# Altium schematic symbol library Cap_FYL0H103ZF.SchLib: 1 symbol
Pins are listed as number, name and electrical type; pins without a type are passive.

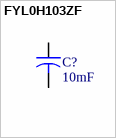
[diagram p0: symbol FYL0H103ZF]

## FYL0H103ZF
designator C?, comment 10mF
Capacitor; PartNumber: EEU-FC1J470; Manufacturer: Panasonic; Published: 23-Sep-2002; PackageReference: CAPR5-4X5; Publisher: Altium Limited; PackageDescription: Capacitor; 2 Leads
simulation model CAP (Capacitor)
signal-integrity model Cap
footprint FYL0H103ZF
pins: 1, 2